# Altium schematic symbol library WIRE_SINGLE.SchLib: 1 symbol
Pins are listed as number, name and electrical type; pins without a type are passive.

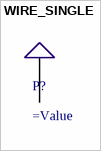
[diagram p0: symbol WIRE_SINGLE]

## WIRE_SINGLE
designator P?  (no BOM)
pins: 1 Wire